# Altium footprint library ds1023_2x20sf11.PcbLib: 1 footprints
Each footprint in its own frame and in the unit in brackets; x right, y up, seen from the top. Pads: shape width x height; smd on the part's side, far side on the other; paste and mask are expansions set on the pad; w line width, h text height; cw(c..) or ccw(c..) is an arc to the next point about the centre after c.
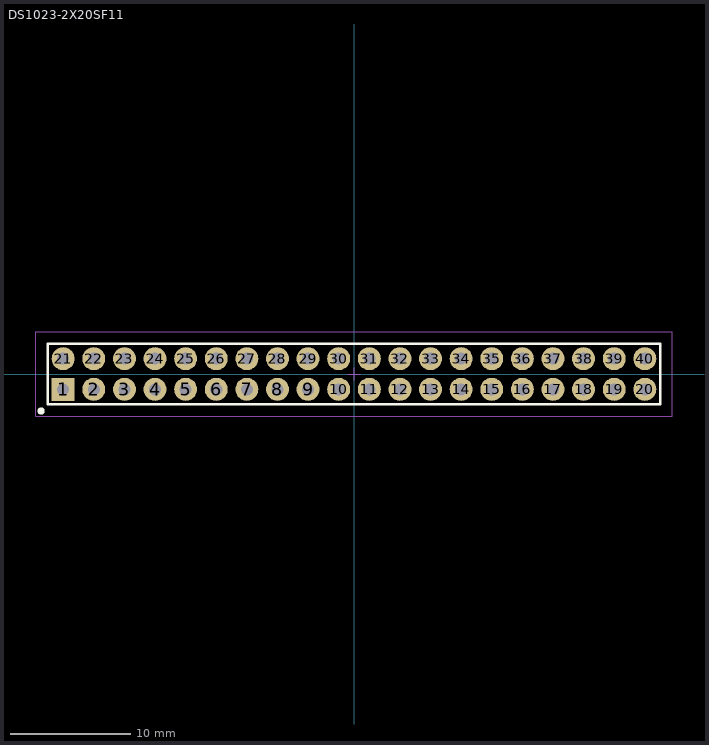
[diagram p0: the footprint, top view; thin cyan lines are the x and y axes]

## DS1023-2X20SF11 [mm] "PBD 40 Pins 2,54mm Socket Header V/T Blanking Type"
height 8.5
pads (40):
  rect 1.9x1.9 hole 1: 1(-24.13,-1.27)
  round 1.9 hole 1: 2(-21.59,-1.27) 3(-19.05,-1.27) 4(-16.51,-1.27) 5(-13.97,-1.27) 6(-11.43,-1.27) 7(-8.89,-1.27) 8(-6.35,-1.27) 9(-3.81,-1.27) 10(-1.27,-1.27) 11(1.27,-1.27) 12(3.81,-1.27) 13(6.35,-1.27) 14(8.89,-1.27) 15(11.43,-1.27) 16(13.97,-1.27) 17(16.51,-1.27) 18(19.05,-1.27) 19(21.59,-1.27) 20(24.13,-1.27) 21(-24.13,1.27) 22(-21.59,1.27) 23(-19.05,1.27) 24(-16.51,1.27) 25(-13.97,1.27) 26(-11.43,1.27) 27(-8.89,1.27) 28(-6.35,1.27) 29(-3.81,1.27) 30(-1.27,1.27) 31(1.27,1.27) 32(3.81,1.27) 33(6.35,1.27) 34(8.89,1.27) 35(11.43,1.27) 36(13.97,1.27) 37(16.51,1.27) 38(19.05,1.27) 39(21.59,1.27) 40(24.13,1.27)
Top Overlay:
  circle w0.6: c-25.96,-3.07 r0.001
  lines w0.2: -25.4,-2.5 25.4,-2.5 25.4,2.5 -25.4,2.5 -25.4,-2.5
Top Comment:
  text ".Comment" at 1,3.7 h1.2
Top Designator:
  text ".Designator" at -0.4,3.7 h1.2
Top Component Outline:
  circle w0.35: c-24.7,-1.8 r0.15
  lines w0.1: -25.4,-2.5 -25.4,2.5 25.4,2.5 25.4,-2.5 -25.4,-2.5
Top Courtyard (Mech15):
  lines w0.05: -26.4,-3.5 26.4,-3.5 26.4,3.5 -26.4,3.5 -26.4,-3.5
  lines w0.1: -0.5,0 0.5,0 ; 0,-0.5 0,0.5
3D body "DS1023-1x20SF11.STEP": height 8.5, standoff -3, extent -25.4,-2.54 25.4,0
3D body "DS1023-1x20SF11.STEP": height 8.5, standoff -3, extent -25.4,0 25.4,2.54